# EAGLE library part DS75451 (library dec-con)
Dual 2-input AND Gate Peripheral Drivers, Open Collector
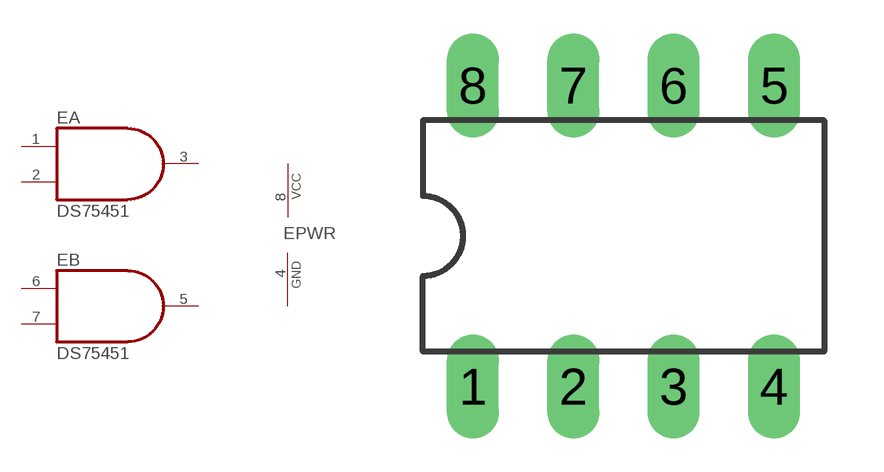
[diagram p75: symbol with the pads of DIL08; footprint DIL08]

Designator prefix E; gates PWR=PWRN A=7409 B=7409

## DS75451N  [DIL08]
1  A:I0  in
2  A:I1  in
3  A:O  oc
4  PWR:GND  pwr
5  B:O  oc
6  B:I0  in
7  B:I1  in
8  PWR:VCC  pwr

## Footprint DIL08 (pad centres in mm)
Dual In Line Package
drill 0.813 long: 1 -3.81,-3.81; 2 -1.27,-3.81; 3 1.27,-3.81; 4 3.81,-3.81; 5 3.81,3.81; 6 1.27,3.81; 7 -1.27,3.81; 8 -3.81,3.81